# Altium footprint library TO-220ABx2.PcbLib: 1 footprints
Each footprint in its own frame and in the unit in brackets; x right, y up, seen from the top. Pads: shape width x height; smd on the part's side, far side on the other; paste and mask are expansions set on the pad; w line width, h text height; cw(c..) or ccw(c..) is an arc to the next point about the centre after c.
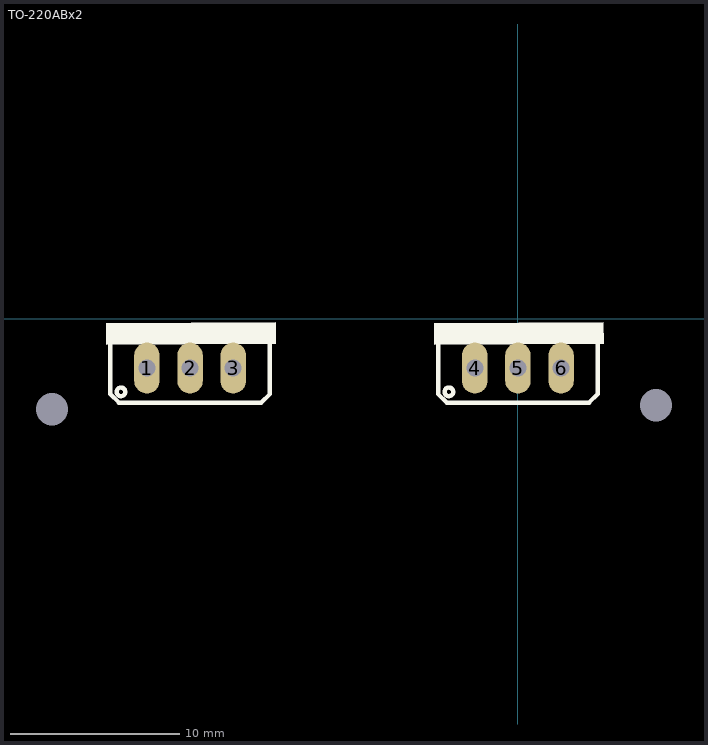
[diagram p0: the footprint, top view; thin cyan lines are the x and y axes]

## TO-220ABx2 [mm] "TO-220AB, MOSFET, DIODE, BJT"
height 17
pads (8):
  round 0 hole 1.905: 0(-27.432,-5.334) 0(8.128,-5.08)
  oval 1.5x3 hole 1: 1(-21.844,-2.904) 2(-19.304,-2.904) 3(-16.764,-2.904) 4(-2.54,-2.904) 5(0,-2.904) 6(2.54,-2.904)
Top Overlay:
  circle w0.254: c-23.368,-4.301 r0.254
  circle w0.254: c-4.064,-4.301 r0.254
  region: -24.251,-1.537 -14.251,-1.492 -14.257,-0.192 -24.257,-0.237
  region: -4.947,-1.537 5.053,-1.492 5.047,-0.192 -4.953,-0.237
  lines w0.254: -24.003,-1.492 -24.003,-4.428 -23.495,-4.936 -15.113,-4.936 -14.605,-4.428 -14.605,-1.492 ; -4.699,-1.492 -4.699,-4.428 -4.191,-4.936 4.191,-4.936 4.699,-4.428 4.699,-1.492
3D body "TO-220 3pins short V1.stp": height 19.11, standoff -3, extent -25.246,-4.654 -13.362,-0.254
3D body "TO-220 3pins short V1.stp": height 19.11, standoff -3, extent -5.942,-4.654 5.942,-0.254
3D body: height 25.4, standoff 0, extent -28.321,-12.81 9.271,1.16